# EAGLE library part LEDSHIELD2_14TO4 (library lightuino3.lbrlightuino3.1)
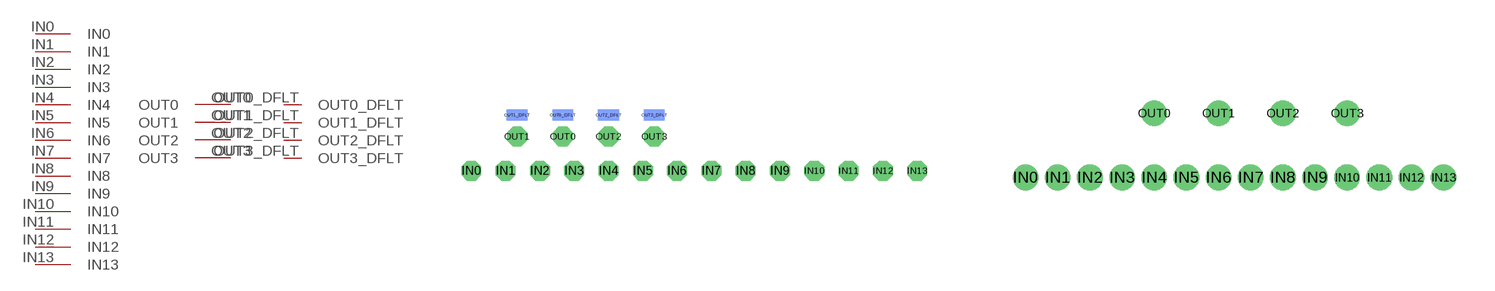
[diagram p4: symbol with the pads of LEDSHIELD2_14TO4A; footprints LEDSHIELD2_14TO4A, LEDSHIELD2_14TO4]

Designator prefix -

## LEDSHIELD2_14TO4BIGGER  [LEDSHIELD2_14TO4A]
IN0  IN0
IN1  IN1
IN2  IN2
IN3  IN3
IN4  IN4
IN5  IN5
IN6  IN6
IN7  IN7
IN8  IN8
IN9  IN9
IN10  IN10
IN11  IN11
IN12  IN12
IN13  IN13
OUT0  OUT0
OUT0_DFLT  OUT0_DFLT
OUT1  OUT1
OUT1_DFLT  OUT1_DFLT
OUT2  OUT2
OUT2_DFLT  OUT2_DFLT
OUT3  OUT3
OUT3_DFLT  OUT3_DFLT

## LEDSHIELD2_14TO4SMALL  [LEDSHIELD2_14TO4]
IN0  IN0
IN1  IN1
IN2  IN2
IN3  IN3
IN4  IN4
IN5  IN5
IN6  IN6
IN7  IN7
IN8  IN8
IN9  IN9
IN10  IN10
IN11  IN11
IN12  IN12
IN13  IN13
OUT0  OUT0
OUT1  OUT1
OUT2  OUT2
OUT3  OUT3

## Footprint LEDSHIELD2_14TO4A (pad centres in mm)
drill 0.6 pad 1.016 octagon: IN0 -13.335,-1.905; IN1 -11.43,-1.905; IN2 -9.525,-1.905; IN3 -7.62,-1.905; IN4 -5.715,-1.905; IN5 -3.81,-1.905; IN6 -1.905,-1.905; IN7 0,-1.905; IN8 1.905,-1.905; IN9 3.81,-1.905; IN10 5.715,-1.905; IN11 7.62,-1.905; IN12 9.525,-1.905; IN13 11.43,-1.905; OUT0 -8.255,0; OUT1 -10.795,0; OUT2 -5.715,0; OUT3 -3.175,0
smd 1.143 x 0.635 bottom: OUT0_DFLT -8.255,1.194; OUT1_DFLT -10.795,1.194; OUT2_DFLT -5.715,1.194; OUT3_DFLT -3.175,1.194

## Footprint LEDSHIELD2_14TO4 (pad centres in mm)
drill 0.508 round: IN0 -8.89,0; IN1 -7.62,0; IN2 -6.35,0; IN3 -5.08,0; IN4 -3.81,0; IN5 -2.54,0; IN6 -1.27,0; IN7 0,0; IN8 1.27,0; IN9 2.54,0; IN10 3.81,0; IN11 5.08,0; IN12 6.35,0; IN13 7.62,0; OUT0 -3.81,2.54; OUT1 -1.27,2.54; OUT2 1.27,2.54; OUT3 3.81,2.54